# Altium footprint library DEOP2026.PcbLib: 8 footprints
Each footprint in its own frame and in the unit in brackets; x right, y up, seen from the top. Pads: shape width x height; smd on the part's side, far side on the other; paste and mask are expansions set on the pad; w line width, h text height; cw(c..) or ccw(c..) is an arc to the next point about the centre after c.
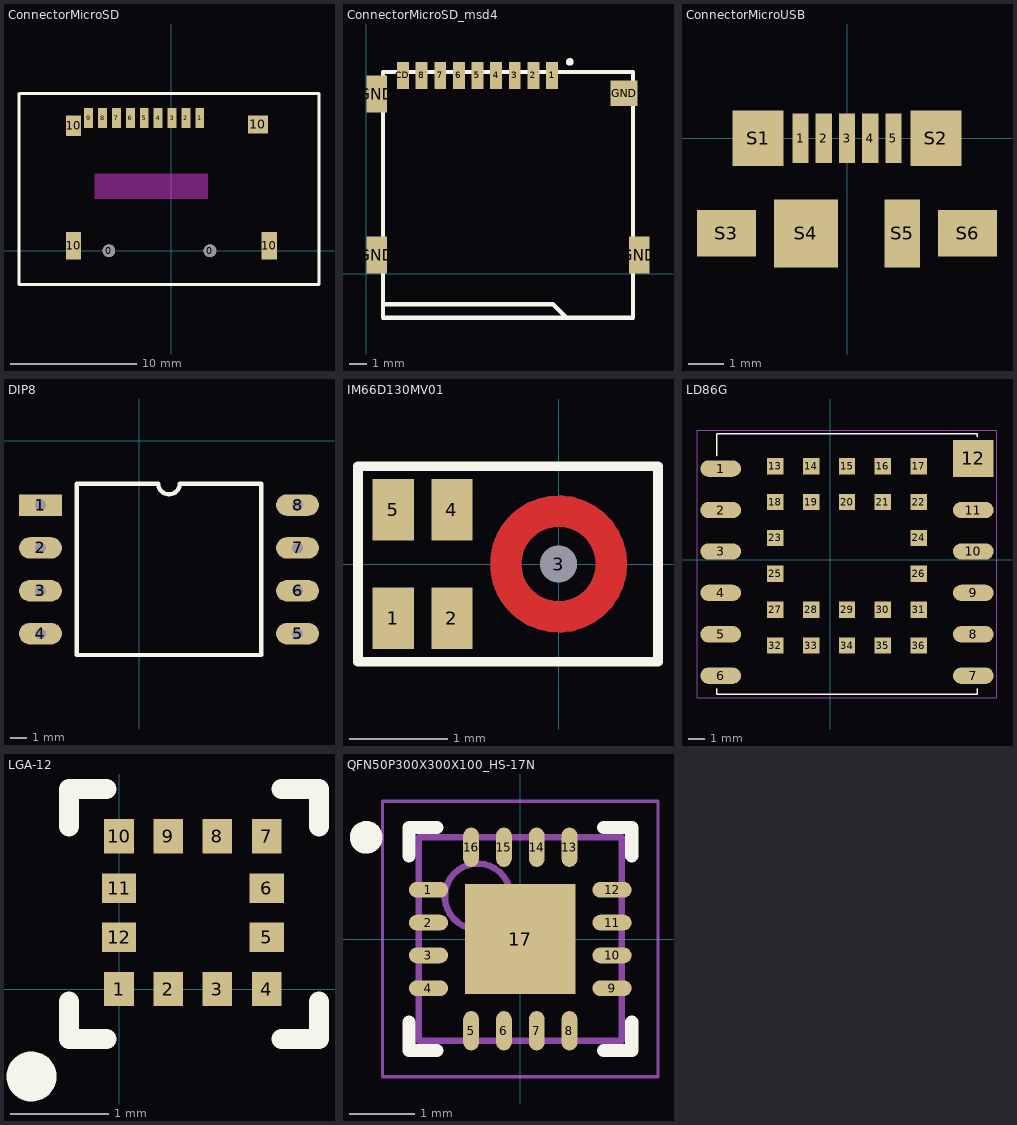
[diagram p0: the footprints below, top view; thin cyan lines are the x and y axes]

## ConnectorMicroSD [mm]
pads (15):
  round 1 hole 1 unplated: 0(-4.95,0) 0(3.05,0)
  rect 0.7x1.6 smd: 1(2.25,10.5) 2(1.15,10.5) 3(0.05,10.5) 4(-1.05,10.5) 5(-2.15,10.5) 6(-3.25,10.5) 7(-4.35,10.5) 8(-5.45,10.5) 9(-6.55,10.5)
  rect 1.2x2.2 smd: 10(-7.75,0.4) 10(7.75,0.4)
  rect 1.2x1.6 smd: 10(-7.75,9.9)
  rect 1.6x1.4 smd: 10(6.85,10)
Top Overlay:
  lines w0.254: -12.065,12.446 -12.065,-2.667 11.684,-2.667 11.684,12.446 -11.938,12.446
Keep-Out Layer:
  rectangle: -6.1,4.1 2.9,6.1

## ConnectorMicroSD_msd4 [mm]
pads (13):
  rect 0.7x1.6 / inner rect 1.2x2.2 / far side rect 0x0 all layers, no hole: 1(10.95,11.7) 2(9.85,11.7) 3(8.75,11.7) 4(7.65,11.7) 5(6.55,11.7) 6(5.45,11.7) 7(4.35,11.7) 8(3.25,11.7) CD(2.15,11.7)
  rect 1.2x2.2 / inner rect 1.2x2.2 / far side rect 0x0 all layers, no hole: GND(0.6,1.1) GND(0.6,10.6) GND(16.1,1.1)
  rect 1.6x1.5 / inner rect 1.2x2.2 / far side rect 0x0 all layers, no hole: GND(15.2,10.65)
Top Overlay:
  circle w0.254: c12,12.5 r0.1
  lines w0.254: 1,-1.8 11,-1.8 11.8,-2.6 15.725,-2.6 ; 15.725,-2.6 15.725,11.9 0.975,11.9 0.975,-2.6 15.725,-2.6
3D body "MSD-4-A--3DModel-STEP-1.STEP": height 1.8, standoff -0.6, extent 0.6,-3.425 16.75,11.625

## ConnectorMicroUSB [mm]
pads (11):
  rect 0.45x1.38 smd: 1(-1.3,0) 2(-0.65,0) 3(0,0) 4(0.65,0) 5(1.3,0)
  rect 1.425x1.55 smd: S1(-2.488,0) S2(2.488,0)
  rect 1.65x1.3 smd: S3(-3.375,-2.66) S6(3.375,-2.66)
  rect 1.8x1.9 smd: S4(-1.15,-2.66)
  rect 1x1.9 smd: S5(1.55,-2.66)

## DIP8 [mil]
pads (8):
  rect 100x50 hole 25: 1(-230,-150)
  oval 100x50 hole 25: 2(-230,-250) 3(-230,-350) 4(-230,-450) 5(370,-450) 6(370,-350) 7(370,-250) 8(370,-150)
Top Overlay:
  lines w10: -145,-500 -145,-100 45,-100 ccw(c70,-100) 95,-100 285,-100 285,-500 -145,-500

## IM66D130MV01 [mm]
pads (5):
  rect 0.42x0.625 smd mask+0.05: 1(-1.69,-0.555) 2(-1.09,-0.555) 4(-1.09,0.555) 5(-1.69,0.555)
  round 0.375 / inner round 0.4 / far side round 0.375 hole 0.375 mask+0.05: 3(0,0)
Top Layer:
  circle w0.32: c0,0 r0.54
Bottom Layer:
  circle w0.32: c0,0 r0.54
Top Overlay:
  lines w0.1: -2.05,-1 -2.05,1 1.016,1 1.016,-1 -2.05,-1

## LD86G [mm]
pads (36):
  oval 2.5x1 smd mask+0.05: 1(-6.734,5.596) 2(-6.734,3.056) 3(-6.734,0.516) 4(-6.734,-2.024) 5(-6.734,-4.564) 6(-6.734,-7.104) 7(8.766,-7.104) 8(8.766,-4.564) 9(8.766,-2.024) 10(8.766,0.516) 11(8.766,3.056)
  rect 2.5x2.25 smd mask+0.05: 12(8.766,6.221)
  rect 1x1 smd mask+0.05: 13(-3.384,5.746) 14(-1.184,5.746) 15(1.016,5.746) 16(3.216,5.746) 17(5.416,5.746) 18(-3.384,3.546) 19(-1.184,3.546) 20(1.016,3.546) 21(3.216,3.546) 22(5.416,3.546) 23(-3.384,1.346) 24(5.416,1.346) 25(-3.384,-0.854) 26(5.416,-0.854) 27(-3.384,-3.054) 28(-1.184,-3.054) 29(1.016,-3.054) 30(3.216,-3.054) 31(5.416,-3.054) 32(-3.384,-5.254) 33(-1.184,-5.254) 34(1.016,-5.254) 35(3.216,-5.254) 36(5.416,-5.254)
Top Overlay:
  lines w0.1: -6.984,-7.904 -6.984,-8.254 9.016,-8.254 9.016,-7.904 ; -6.984,6.396 -6.984,7.746 9.016,7.746 9.016,7.546
Mechanical 5:
  lines w0.01: -8.184,-8.454 10.216,-8.454 10.216,7.946 -8.184,7.946 -8.184,-8.454
3D body: height 6.98, standoff 0, extent -6.983,-8.254 9.017,7.746

## LGA-12 [mm]
pads (12):
  rect 0.3x0.35 smd: 1(0,0) 2(0.5,0) 3(1,0) 4(1.5,0) 7(1.5,1.55) 8(1,1.55) 9(0.5,1.55) 10(0,1.55)
  rect 0.35x0.3 smd: 5(1.5,0.525) 6(1.5,1.025) 11(0,1.025) 12(0,0.525)
Top Overlay:
  circle w0.254: c-0.889,-0.889 r0.127
  lines w0.2: -0.508,-0.127 -0.508,-0.508 -0.127,-0.508 ; -0.508,1.651 -0.508,2.032 -0.127,2.032 ; 1.651,-0.508 2.032,-0.508 2.032,-0.127 ; 1.651,2.032 2.032,2.032 2.032,1.651
3D body: height 1, standoff 1, extent -0.277,-0.277 1.777,1.827

## QFN50P300X300X100_HS-17N [mm] "QFN, 16-Leads, Body 3,00x3,00mm, Pitch 0,50mm, Thermal Pad 1,68x1,68mm, IPC Medium Density"
height 1
pads (17):
  oval 0.6x0.24 smd: 1(-1.4,0.75) 2(-1.4,0.25) 3(-1.4,-0.25) 4(-1.4,-0.75) 9(1.4,-0.75) 10(1.4,-0.25) 11(1.4,0.25) 12(1.4,0.75)
  oval 0.24x0.6 smd: 5(-0.75,-1.4) 6(-0.25,-1.4) 7(0.25,-1.4) 8(0.75,-1.4) 13(0.75,1.4) 14(0.25,1.4) 15(-0.25,1.4) 16(-0.75,1.4)
  rect 1.68x1.68 smd: 17(0,0)
Top Overlay:
  circle w0.25: c-2.35,1.55 r0.125
  lines w0.2: -1.7,-1.27 -1.7,-1.7 -1.27,-1.7 ; -1.7,1.27 -1.7,1.7 -1.27,1.7 ; 1.27,-1.7 1.7,-1.7 1.7,-1.27 ; 1.27,1.7 1.7,1.7 1.7,1.27
Mechanical 13:
  circle w0.1: c-0.65,0.65 r0.5
  lines w0.1: -1.55,-1.55 1.55,-1.55 1.55,1.55 -1.55,1.55 -1.55,-1.55
Mechanical 15:
  lines w0.05: -2.1,-2.1 2.1,-2.1 2.1,2.1 -2.1,2.1 -2.1,-2.1
  lines w0.1: -0.5,0 0.5,0 ; 0,-0.5 0,0.5
3D body "QFN50P300X300X100_HS-17N.step": height 1, standoff 0, extent -1.6,-1.6 1.6,1.6